# EAGLE library part LTC6992CS6-1TRMPBF (library LTC6992CS6-1TRMPBF)
Voltage-Controlled Pulse Width Modulator (PWM)
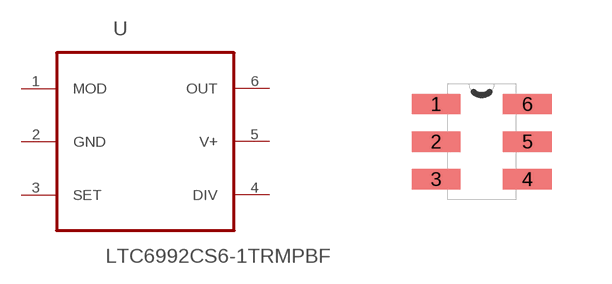
[diagram p0: symbol with the pads of SOT95P280X100-6N; footprint SOT95P280X100-6N]

Designator prefix U

## LTC6992CS6-1TRMPBF (AVAILABILITY: Unavailable; DESCRIPTION: Silicon Oscillator - 0.00000381MHz to 1MHz CMOS Automotive 6-Pin TSOT-23 T/R; MF: Analog Devices; MP: LTC6992CS6-1#TRMPBF; PACKAGE: SOT-23-6 Analog Devices; PRICE: None)  [SOT95P280X100-6N]
1  MOD  in
2  GND  pas
3  SET  in
4  DIV  in
5  V+  pwr
6  OUT  out

## Footprint SOT95P280X100-6N (pad centres in mm)
smd 1.219 x 0.508: 1 -1.143,0.94; 2 -1.143,0; 3 -1.143,-0.94; 4 1.143,-0.94; 5 1.143,0; 6 1.143,0.94